# Altium schematic symbol library SparkFun-Hardware.SCHLIB: 23 symbols
Pins are listed as number, name and electrical type; pins without a type are passive.

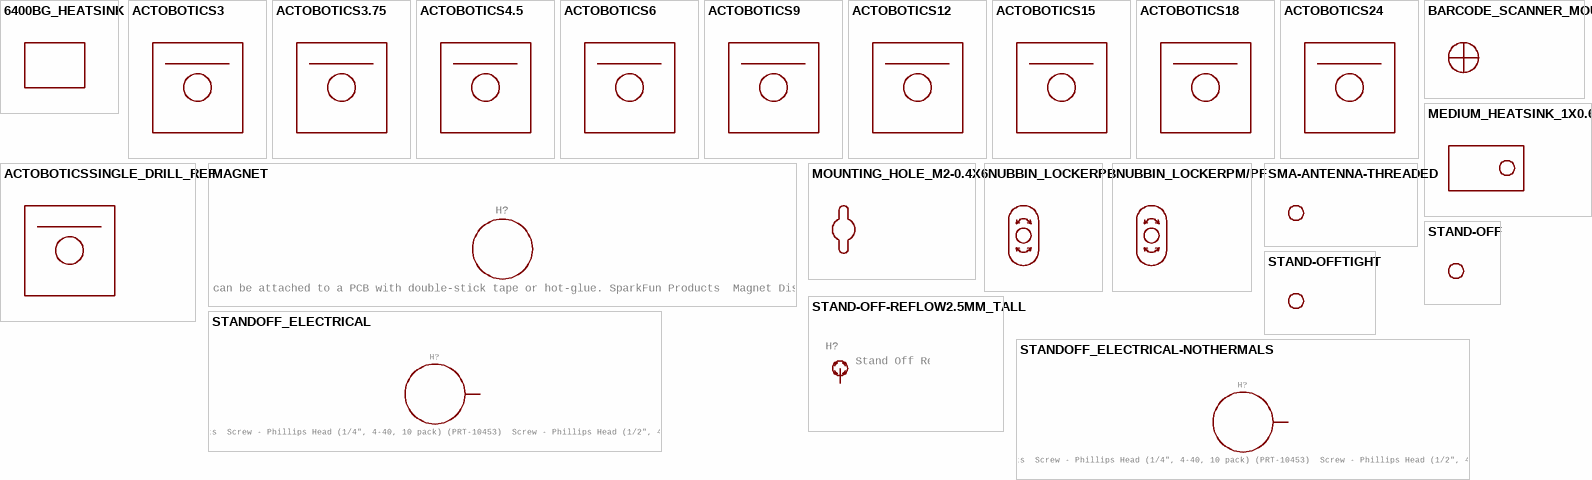
[diagram p0: symbols 6400BG_HEATSINK to STANDOFF_ELECTRICAL-NOTHERMALS]

## 6400BG_HEATSINK
designator H?, comment 6400BG Heatsink - Multiwatt Package    This beefy heatsink is designed to dissipate a lot of heat! The 6400BG heatsink fits TO-220, TO-218, TO-247, and Multiwatt packages - which means itâ€™s a great fit for the STA540, L298N, and all of our T-220 package voltage regulators.   SparkFun Products Heat Sink - Multiwatt Package (PRT-09576)  (value not drawn)
GateName_1: G$1; SymbolName_1: 6400GB_HEATSINK; DeviceSetName: 6400BG_HEATSINK; PROD_ID: COMP-09537; LibraryName: SparkFun-Hardware; Package: 6400BG_HEATSINK; SF_SKU: PRT-09576
footprint 6400BG_HEATSINK

## ACTOBOTICS3
designator H?, comment Actobotics Reference Packages    This device contains a variety of refrence packages that can be used to plan out a design using actobotics hardware.   Note, none of these packages have electrical conections (pins or pads), they are intended to be used for referencing drill spacing on Actobotics hardware.    It can take a lot of precise planning, measuring and calculating to mate a PCB design with the drill spacing of your projects hardware.     If you drop these packages into your eagle design, you can more easily know exactly where your drill hits should be.    Note, you could simply add these packages directly to your board file (without ever adding the "device" to your schematic). We created this device simple to make this collection of packages organized and more accessible     The "CHANNEL" packages simply have the outline of the Actobotics part, with some dotted lines to show the 1" and 0.5" grid points. If you set your grid to 0.75", then you can easlity place these various channels down to plan out your project.   The "SINGLE_DRILL_REF" package contains the actual drill hit positions. It also contains the diameter for each drill hit. Once you have your channels layed out, then you can drop some of these packages on top to see the drill hit spacing.   Note, all of these packages are drawn on the "tDocu" layer (51), so make sure that is turned on when viewing your design.   SparkFun Products:  Aluminum Channel - 24"  Aluminum Channel - 18"  Aluminum Channel - 15"  Aluminum Channel - 12"  Aluminum Channel - 9.0"  Aluminum Channel - 6.0"  Aluminum Channel - 4.50"  Aluminum Channel - 3.75"   Aluminum Channel - 3.0"  Aluminum Channel - 1.50"  (value not drawn)
GateName_1: G$1; DeviceName: 3; SymbolName_1: ACTOBOTICS; LibraryName: SparkFun-Hardware; DeviceSetName: ACTOBOTICS; Package: ACTOBOTICS_CHANNEL_3"
footprint ACTOBOTICS_CHANNEL_3"

## ACTOBOTICS3.75
designator H?, comment Actobotics Reference Packages    This device contains a variety of refrence packages that can be used to plan out a design using actobotics hardware.   Note, none of these packages have electrical conections (pins or pads), they are intended to be used for referencing drill spacing on Actobotics hardware.    It can take a lot of precise planning, measuring and calculating to mate a PCB design with the drill spacing of your projects hardware.     If you drop these packages into your eagle design, you can more easily know exactly where your drill hits should be.    Note, you could simply add these packages directly to your board file (without ever adding the "device" to your schematic). We created this device simple to make this collection of packages organized and more accessible     The "CHANNEL" packages simply have the outline of the Actobotics part, with some dotted lines to show the 1" and 0.5" grid points. If you set your grid to 0.75", then you can easlity place these various channels down to plan out your project.   The "SINGLE_DRILL_REF" package contains the actual drill hit positions. It also contains the diameter for each drill hit. Once you have your channels layed out, then you can drop some of these packages on top to see the drill hit spacing.   Note, all of these packages are drawn on the "tDocu" layer (51), so make sure that is turned on when viewing your design.   SparkFun Products:  Aluminum Channel - 24"  Aluminum Channel - 18"  Aluminum Channel - 15"  Aluminum Channel - 12"  Aluminum Channel - 9.0"  Aluminum Channel - 6.0"  Aluminum Channel - 4.50"  Aluminum Channel - 3.75"   Aluminum Channel - 3.0"  Aluminum Channel - 1.50"  (value not drawn)
GateName_1: G$1; DeviceName: 3.75; SymbolName_1: ACTOBOTICS; LibraryName: SparkFun-Hardware; DeviceSetName: ACTOBOTICS; Package: ACTOBOTICS_CHANNEL_3.75"
footprint ACTOBOTICS_CHANNEL_3.75"

## ACTOBOTICS4.5
designator H?, comment Actobotics Reference Packages    This device contains a variety of refrence packages that can be used to plan out a design using actobotics hardware.   Note, none of these packages have electrical conections (pins or pads), they are intended to be used for referencing drill spacing on Actobotics hardware.    It can take a lot of precise planning, measuring and calculating to mate a PCB design with the drill spacing of your projects hardware.     If you drop these packages into your eagle design, you can more easily know exactly where your drill hits should be.    Note, you could simply add these packages directly to your board file (without ever adding the "device" to your schematic). We created this device simple to make this collection of packages organized and more accessible     The "CHANNEL" packages simply have the outline of the Actobotics part, with some dotted lines to show the 1" and 0.5" grid points. If you set your grid to 0.75", then you can easlity place these various channels down to plan out your project.   The "SINGLE_DRILL_REF" package contains the actual drill hit positions. It also contains the diameter for each drill hit. Once you have your channels layed out, then you can drop some of these packages on top to see the drill hit spacing.   Note, all of these packages are drawn on the "tDocu" layer (51), so make sure that is turned on when viewing your design.   SparkFun Products:  Aluminum Channel - 24"  Aluminum Channel - 18"  Aluminum Channel - 15"  Aluminum Channel - 12"  Aluminum Channel - 9.0"  Aluminum Channel - 6.0"  Aluminum Channel - 4.50"  Aluminum Channel - 3.75"   Aluminum Channel - 3.0"  Aluminum Channel - 1.50"  (value not drawn)
GateName_1: G$1; DeviceName: 4.5; SymbolName_1: ACTOBOTICS; LibraryName: SparkFun-Hardware; DeviceSetName: ACTOBOTICS; Package: ACTOBOTICS_CHANNEL_4.5"
footprint ACTOBOTICS_CHANNEL_4.5"

## ACTOBOTICS6
designator H?, comment Actobotics Reference Packages    This device contains a variety of refrence packages that can be used to plan out a design using actobotics hardware.   Note, none of these packages have electrical conections (pins or pads), they are intended to be used for referencing drill spacing on Actobotics hardware.    It can take a lot of precise planning, measuring and calculating to mate a PCB design with the drill spacing of your projects hardware.     If you drop these packages into your eagle design, you can more easily know exactly where your drill hits should be.    Note, you could simply add these packages directly to your board file (without ever adding the "device" to your schematic). We created this device simple to make this collection of packages organized and more accessible     The "CHANNEL" packages simply have the outline of the Actobotics part, with some dotted lines to show the 1" and 0.5" grid points. If you set your grid to 0.75", then you can easlity place these various channels down to plan out your project.   The "SINGLE_DRILL_REF" package contains the actual drill hit positions. It also contains the diameter for each drill hit. Once you have your channels layed out, then you can drop some of these packages on top to see the drill hit spacing.   Note, all of these packages are drawn on the "tDocu" layer (51), so make sure that is turned on when viewing your design.   SparkFun Products:  Aluminum Channel - 24"  Aluminum Channel - 18"  Aluminum Channel - 15"  Aluminum Channel - 12"  Aluminum Channel - 9.0"  Aluminum Channel - 6.0"  Aluminum Channel - 4.50"  Aluminum Channel - 3.75"   Aluminum Channel - 3.0"  Aluminum Channel - 1.50"  (value not drawn)
GateName_1: G$1; DeviceName: 6; SymbolName_1: ACTOBOTICS; LibraryName: SparkFun-Hardware; DeviceSetName: ACTOBOTICS; Package: ACTOBOTICS_CHANNEL_6"
footprint ACTOBOTICS_CHANNEL_6"

## ACTOBOTICS9
designator H?, comment Actobotics Reference Packages    This device contains a variety of refrence packages that can be used to plan out a design using actobotics hardware.   Note, none of these packages have electrical conections (pins or pads), they are intended to be used for referencing drill spacing on Actobotics hardware.    It can take a lot of precise planning, measuring and calculating to mate a PCB design with the drill spacing of your projects hardware.     If you drop these packages into your eagle design, you can more easily know exactly where your drill hits should be.    Note, you could simply add these packages directly to your board file (without ever adding the "device" to your schematic). We created this device simple to make this collection of packages organized and more accessible     The "CHANNEL" packages simply have the outline of the Actobotics part, with some dotted lines to show the 1" and 0.5" grid points. If you set your grid to 0.75", then you can easlity place these various channels down to plan out your project.   The "SINGLE_DRILL_REF" package contains the actual drill hit positions. It also contains the diameter for each drill hit. Once you have your channels layed out, then you can drop some of these packages on top to see the drill hit spacing.   Note, all of these packages are drawn on the "tDocu" layer (51), so make sure that is turned on when viewing your design.   SparkFun Products:  Aluminum Channel - 24"  Aluminum Channel - 18"  Aluminum Channel - 15"  Aluminum Channel - 12"  Aluminum Channel - 9.0"  Aluminum Channel - 6.0"  Aluminum Channel - 4.50"  Aluminum Channel - 3.75"   Aluminum Channel - 3.0"  Aluminum Channel - 1.50"  (value not drawn)
GateName_1: G$1; DeviceName: 9; SymbolName_1: ACTOBOTICS; LibraryName: SparkFun-Hardware; DeviceSetName: ACTOBOTICS; Package: ACTOBOTICS_CHANNEL_9"
footprint ACTOBOTICS_CHANNEL_9"

## ACTOBOTICS12
designator H?, comment Actobotics Reference Packages    This device contains a variety of refrence packages that can be used to plan out a design using actobotics hardware.   Note, none of these packages have electrical conections (pins or pads), they are intended to be used for referencing drill spacing on Actobotics hardware.    It can take a lot of precise planning, measuring and calculating to mate a PCB design with the drill spacing of your projects hardware.     If you drop these packages into your eagle design, you can more easily know exactly where your drill hits should be.    Note, you could simply add these packages directly to your board file (without ever adding the "device" to your schematic). We created this device simple to make this collection of packages organized and more accessible     The "CHANNEL" packages simply have the outline of the Actobotics part, with some dotted lines to show the 1" and 0.5" grid points. If you set your grid to 0.75", then you can easlity place these various channels down to plan out your project.   The "SINGLE_DRILL_REF" package contains the actual drill hit positions. It also contains the diameter for each drill hit. Once you have your channels layed out, then you can drop some of these packages on top to see the drill hit spacing.   Note, all of these packages are drawn on the "tDocu" layer (51), so make sure that is turned on when viewing your design.   SparkFun Products:  Aluminum Channel - 24"  Aluminum Channel - 18"  Aluminum Channel - 15"  Aluminum Channel - 12"  Aluminum Channel - 9.0"  Aluminum Channel - 6.0"  Aluminum Channel - 4.50"  Aluminum Channel - 3.75"   Aluminum Channel - 3.0"  Aluminum Channel - 1.50"  (value not drawn)
GateName_1: G$1; DeviceName: 12; SymbolName_1: ACTOBOTICS; LibraryName: SparkFun-Hardware; DeviceSetName: ACTOBOTICS; Package: ACTOBOTICS_CHANNEL_12"
footprint ACTOBOTICS_CHANNEL_12"

## ACTOBOTICS15
designator H?, comment Actobotics Reference Packages    This device contains a variety of refrence packages that can be used to plan out a design using actobotics hardware.   Note, none of these packages have electrical conections (pins or pads), they are intended to be used for referencing drill spacing on Actobotics hardware.    It can take a lot of precise planning, measuring and calculating to mate a PCB design with the drill spacing of your projects hardware.     If you drop these packages into your eagle design, you can more easily know exactly where your drill hits should be.    Note, you could simply add these packages directly to your board file (without ever adding the "device" to your schematic). We created this device simple to make this collection of packages organized and more accessible     The "CHANNEL" packages simply have the outline of the Actobotics part, with some dotted lines to show the 1" and 0.5" grid points. If you set your grid to 0.75", then you can easlity place these various channels down to plan out your project.   The "SINGLE_DRILL_REF" package contains the actual drill hit positions. It also contains the diameter for each drill hit. Once you have your channels layed out, then you can drop some of these packages on top to see the drill hit spacing.   Note, all of these packages are drawn on the "tDocu" layer (51), so make sure that is turned on when viewing your design.   SparkFun Products:  Aluminum Channel - 24"  Aluminum Channel - 18"  Aluminum Channel - 15"  Aluminum Channel - 12"  Aluminum Channel - 9.0"  Aluminum Channel - 6.0"  Aluminum Channel - 4.50"  Aluminum Channel - 3.75"   Aluminum Channel - 3.0"  Aluminum Channel - 1.50"  (value not drawn)
GateName_1: G$1; DeviceName: 15; SymbolName_1: ACTOBOTICS; LibraryName: SparkFun-Hardware; DeviceSetName: ACTOBOTICS; Package: ACTOBOTICS_CHANNEL_15"
footprint ACTOBOTICS_CHANNEL_15"

## ACTOBOTICS18
designator H?, comment Actobotics Reference Packages    This device contains a variety of refrence packages that can be used to plan out a design using actobotics hardware.   Note, none of these packages have electrical conections (pins or pads), they are intended to be used for referencing drill spacing on Actobotics hardware.    It can take a lot of precise planning, measuring and calculating to mate a PCB design with the drill spacing of your projects hardware.     If you drop these packages into your eagle design, you can more easily know exactly where your drill hits should be.    Note, you could simply add these packages directly to your board file (without ever adding the "device" to your schematic). We created this device simple to make this collection of packages organized and more accessible     The "CHANNEL" packages simply have the outline of the Actobotics part, with some dotted lines to show the 1" and 0.5" grid points. If you set your grid to 0.75", then you can easlity place these various channels down to plan out your project.   The "SINGLE_DRILL_REF" package contains the actual drill hit positions. It also contains the diameter for each drill hit. Once you have your channels layed out, then you can drop some of these packages on top to see the drill hit spacing.   Note, all of these packages are drawn on the "tDocu" layer (51), so make sure that is turned on when viewing your design.   SparkFun Products:  Aluminum Channel - 24"  Aluminum Channel - 18"  Aluminum Channel - 15"  Aluminum Channel - 12"  Aluminum Channel - 9.0"  Aluminum Channel - 6.0"  Aluminum Channel - 4.50"  Aluminum Channel - 3.75"   Aluminum Channel - 3.0"  Aluminum Channel - 1.50"  (value not drawn)
GateName_1: G$1; DeviceName: 18; SymbolName_1: ACTOBOTICS; LibraryName: SparkFun-Hardware; DeviceSetName: ACTOBOTICS; Package: ACTOBOTICS_CHANNEL_18"
footprint ACTOBOTICS_CHANNEL_18"

## ACTOBOTICS24
designator H?, comment Actobotics Reference Packages    This device contains a variety of refrence packages that can be used to plan out a design using actobotics hardware.   Note, none of these packages have electrical conections (pins or pads), they are intended to be used for referencing drill spacing on Actobotics hardware.    It can take a lot of precise planning, measuring and calculating to mate a PCB design with the drill spacing of your projects hardware.     If you drop these packages into your eagle design, you can more easily know exactly where your drill hits should be.    Note, you could simply add these packages directly to your board file (without ever adding the "device" to your schematic). We created this device simple to make this collection of packages organized and more accessible     The "CHANNEL" packages simply have the outline of the Actobotics part, with some dotted lines to show the 1" and 0.5" grid points. If you set your grid to 0.75", then you can easlity place these various channels down to plan out your project.   The "SINGLE_DRILL_REF" package contains the actual drill hit positions. It also contains the diameter for each drill hit. Once you have your channels layed out, then you can drop some of these packages on top to see the drill hit spacing.   Note, all of these packages are drawn on the "tDocu" layer (51), so make sure that is turned on when viewing your design.   SparkFun Products:  Aluminum Channel - 24"  Aluminum Channel - 18"  Aluminum Channel - 15"  Aluminum Channel - 12"  Aluminum Channel - 9.0"  Aluminum Channel - 6.0"  Aluminum Channel - 4.50"  Aluminum Channel - 3.75"   Aluminum Channel - 3.0"  Aluminum Channel - 1.50"  (value not drawn)
GateName_1: G$1; DeviceName: 24; SymbolName_1: ACTOBOTICS; LibraryName: SparkFun-Hardware; DeviceSetName: ACTOBOTICS; Package: ACTOBOTICS_CHANNEL_24"
footprint ACTOBOTICS_CHANNEL_24"

## ACTOBOTICSSINGLE_DRILL_REF
designator H?, comment Actobotics Reference Packages    This device contains a variety of refrence packages that can be used to plan out a design using actobotics hardware.   Note, none of these packages have electrical conections (pins or pads), they are intended to be used for referencing drill spacing on Actobotics hardware.    It can take a lot of precise planning, measuring and calculating to mate a PCB design with the drill spacing of your projects hardware.     If you drop these packages into your eagle design, you can more easily know exactly where your drill hits should be.    Note, you could simply add these packages directly to your board file (without ever adding the "device" to your schematic). We created this device simple to make this collection of packages organized and more accessible     The "CHANNEL" packages simply have the outline of the Actobotics part, with some dotted lines to show the 1" and 0.5" grid points. If you set your grid to 0.75", then you can easlity place these various channels down to plan out your project.   The "SINGLE_DRILL_REF" package contains the actual drill hit positions. It also contains the diameter for each drill hit. Once you have your channels layed out, then you can drop some of these packages on top to see the drill hit spacing.   Note, all of these packages are drawn on the "tDocu" layer (51), so make sure that is turned on when viewing your design.   SparkFun Products:  Aluminum Channel - 24"  Aluminum Channel - 18"  Aluminum Channel - 15"  Aluminum Channel - 12"  Aluminum Channel - 9.0"  Aluminum Channel - 6.0"  Aluminum Channel - 4.50"  Aluminum Channel - 3.75"   Aluminum Channel - 3.0"  Aluminum Channel - 1.50"  (value not drawn)
GateName_1: G$1; SymbolName_1: ACTOBOTICS; DeviceName: SINGLE_DRILL_REF; LibraryName: SparkFun-Hardware; DeviceSetName: ACTOBOTICS; Package: ACTOBOTICS_CHANNEL_SINGLE_DRILL_REF
footprint ACTOBOTICS_CHANNEL_SINGLE_DRILL_REF

## BARCODE_SCANNER_MOUNT
designator ?
GateName_1: G$1; SymbolName_1: BARCODE_SCANNER_MOUNT; PROD_ID: LPA-14926; LibraryName: SparkFun-Hardware; DeviceSetName: BARCODE_SCANNER_MOUNT; Package: BARCODE_SCANNER_MOUNT
footprint BARCODE_SCANNER_MOUNT

## MAGNET
designator H?, comment Magnet    Magnets that can be attached to a PCB with double-stick tape or hot-glue. SparkFun Products  Magnet Disk - 0.709" (COM-08890)
GateName_1: G$1; PROD_ID: COMP-09030; SymbolName_1: MAGNET; LibraryName: SparkFun-Hardware; DeviceSetName: MAGNET; Package: MAGNET-18MM; SF_SKU: COM-08890
footprint MAGNET-18MM

## MEDIUM_HEATSINK_1X0.64
designator H?, comment Medium Heatsink    This is a medium-sized heatsink that has been designed to dissipate heat away from your boards and ICs. Each of these black anodized heatsinks is perfect when used in conjunction with our ESP32 Thing Power Control Shield, but it also fits the TO-220 package.   Product Page   Datasheet  (value not drawn)
GateName_1: G$1; SymbolName_1: MEDIUM_HEATSINK; DeviceSetName: MEDIUM_HEATSINK_1X0.64; LibraryName: SparkFun-Hardware; Package: MEDIUM_HEATSINK
footprint MEDIUM_HEATSINK

## MOUNTING_HOLE_M2-0.4X6
designator ?
GateName_1: G$1; SymbolName_1: MOUNTING_HOLE_M2-0.4X6; LibraryName: SparkFun-Hardware; DeviceSetName: MOUNTING_HOLE_M2-0.4X6; Package: MOUNTING_HOLE_M2-0.4X6
footprint MOUNTING_HOLE_M2-0.4X6

## NUBBIN_LOCKERPB
designator ?, comment Description: 'Nubbins' are used on test jigs to hold a unit-under-test in place against the pogo pins. The nubbin is a small round PCB that has a screw through the middle. The PCB is allowed to rotate around the screw.  (value not drawn)
GateName_1: G$1; SymbolName_1: NUBBIN_LOCKER; DeviceName: PB; LibraryName: SparkFun-Hardware; DeviceSetName: NUBBIN_LOCKER; Package: NUBBIN_LOCKER_PB
footprint NUBBIN_LOCKER_PB

## NUBBIN_LOCKERPM/PF
designator ?, comment Description: 'Nubbins' are used on test jigs to hold a unit-under-test in place against the pogo pins. The nubbin is a small round PCB that has a screw through the middle. The PCB is allowed to rotate around the screw.  (value not drawn)
GateName_1: G$1; SymbolName_1: NUBBIN_LOCKER; DeviceName: PM/PF; LibraryName: SparkFun-Hardware; DeviceSetName: NUBBIN_LOCKER; Package: NUBBIN_LOCKER
footprint NUBBIN_LOCKER

## SMA-ANTENNA-THREADED
designator ?, comment This is a milled 'D' shaped hole that permits a standard threaded SMA female connector to be inserted and attached through a PCB.  (value not drawn)
GateName_1: G$1; SymbolName_1: SMA-ANTENNA-THREADED; LibraryName: SparkFun-Hardware; DeviceSetName: SMA-ANTENNA-THREADED; Package: SMA-THREADED
footprint SMA-THREADED

## STAND-OFF
designator H?, comment Stand Off    Drill holes for mechanically mounting via screws, standoffs, etc.   Note: Use the keepout ring to avoid running the screw head into surrounding components.  Variant Overviews  STAND-OFF - Mechanical footprint for a #4 phillips button head screw.  STAND-OFF-TIGHT - Mechanical footprint for a #4 phillips button head screw,      Example SparkFun Products  Screw - Phillips Head (1/4", 4-40, 10 pack) (PRT-10453)  Screw - Phillips Head (1/2", 4-40, 10 pack) (PRT-10452)  Screw - Phillips Head (3/4", 4-40, 10 pack) (PRT-10451)  Screw - Phillips Head (1", 4-40, 10 pack) (PRT-10450)  (value not drawn)
GateName_1: G$1; SymbolName_1: STAND-OFF; LibraryName: SparkFun-Hardware; DeviceSetName: STAND-OFF; Package: STAND-OFF
footprint STAND-OFF

## STAND-OFF-REFLOW2.5MM_TALL
designator H?, comment Stand Off Reflow Compatible    A metal standoff that can be placed and reflowed onto a PCB.
GateName_1: G$1; SymbolName_1: STAND-OFF-REFLOW; DeviceName: 2.5MM_TALL; PROD_ID: HW-14899; LibraryName: SparkFun-Hardware; DeviceSetName: STAND-OFF-REFLOW; Package: STAND-OFF-REFLOW-M2.5
footprint STAND-OFF-REFLOW-M2.5
pins: 1 (io)

## STAND-OFFTIGHT
designator H?, comment Stand Off    Drill holes for mechanically mounting via screws, standoffs, etc.   Note: Use the keepout ring to avoid running the screw head into surrounding components.  Variant Overviews  STAND-OFF - Mechanical footprint for a #4 phillips button head screw.  STAND-OFF-TIGHT - Mechanical footprint for a #4 phillips button head screw,      Example SparkFun Products  Screw - Phillips Head (1/4", 4-40, 10 pack) (PRT-10453)  Screw - Phillips Head (1/2", 4-40, 10 pack) (PRT-10452)  Screw - Phillips Head (3/4", 4-40, 10 pack) (PRT-10451)  Screw - Phillips Head (1", 4-40, 10 pack) (PRT-10450)  (value not drawn)
GateName_1: G$1; DeviceName: TIGHT; SymbolName_1: STAND-OFF; LibraryName: SparkFun-Hardware; DeviceSetName: STAND-OFF; Package: STAND-OFF-TIGHT
footprint STAND-OFF-TIGHT

## STANDOFF_ELECTRICAL
designator H?, comment Stand Off    Drill holes with an electrical connection. For example, use these to ground your board to a chassis. Example SparkFun Products  Screw - Phillips Head (1/4", 4-40, 10 pack) (PRT-10453)  Screw - Phillips Head (1/2", 4-40, 10 pack) (PRT-10452)  Screw - Phillips Head (3/4", 4-40, 10 pack) (PRT-10451)  Screw - Phillips Head (1", 4-40, 10 pack) (PRT-10450)
GateName_1: G$1; SymbolName_1: STANDOFF_ELECTRICAL; LibraryName: SparkFun-Hardware; DeviceSetName: STANDOFF_ELECTRICAL; Package: STANDOFF-ELECTRICAL
footprint STANDOFF-ELECTRICAL
pins: P1 P$1 (io)

## STANDOFF_ELECTRICAL-NOTHERMALS
designator H?, comment Stand Off    Drill holes with an electrical connection. For example, use these to ground your board to a chassis. Example SparkFun Products  Screw - Phillips Head (1/4", 4-40, 10 pack) (PRT-10453)  Screw - Phillips Head (1/2", 4-40, 10 pack) (PRT-10452)  Screw - Phillips Head (3/4", 4-40, 10 pack) (PRT-10451)  Screw - Phillips Head (1", 4-40, 10 pack) (PRT-10450)
GateName_1: G$1; SymbolName_1: STANDOFF_ELECTRICAL; DeviceName: -NOTHERMALS; LibraryName: SparkFun-Hardware; DeviceSetName: STANDOFF_ELECTRICAL; Package: STANDOFF-ELECTRICAL-NOTHERMALS
footprint STANDOFF-ELECTRICAL-NOTHERMALS
pins: P1 P$1 (io)